# Altium footprint library IoTBox.PcbLib: 13 footprints
Each footprint in its own frame and in the unit in brackets; x right, y up, seen from the top. Pads: shape width x height; smd on the part's side, far side on the other; paste and mask are expansions set on the pad; w line width, h text height; cw(c..) or ccw(c..) is an arc to the next point about the centre after c.
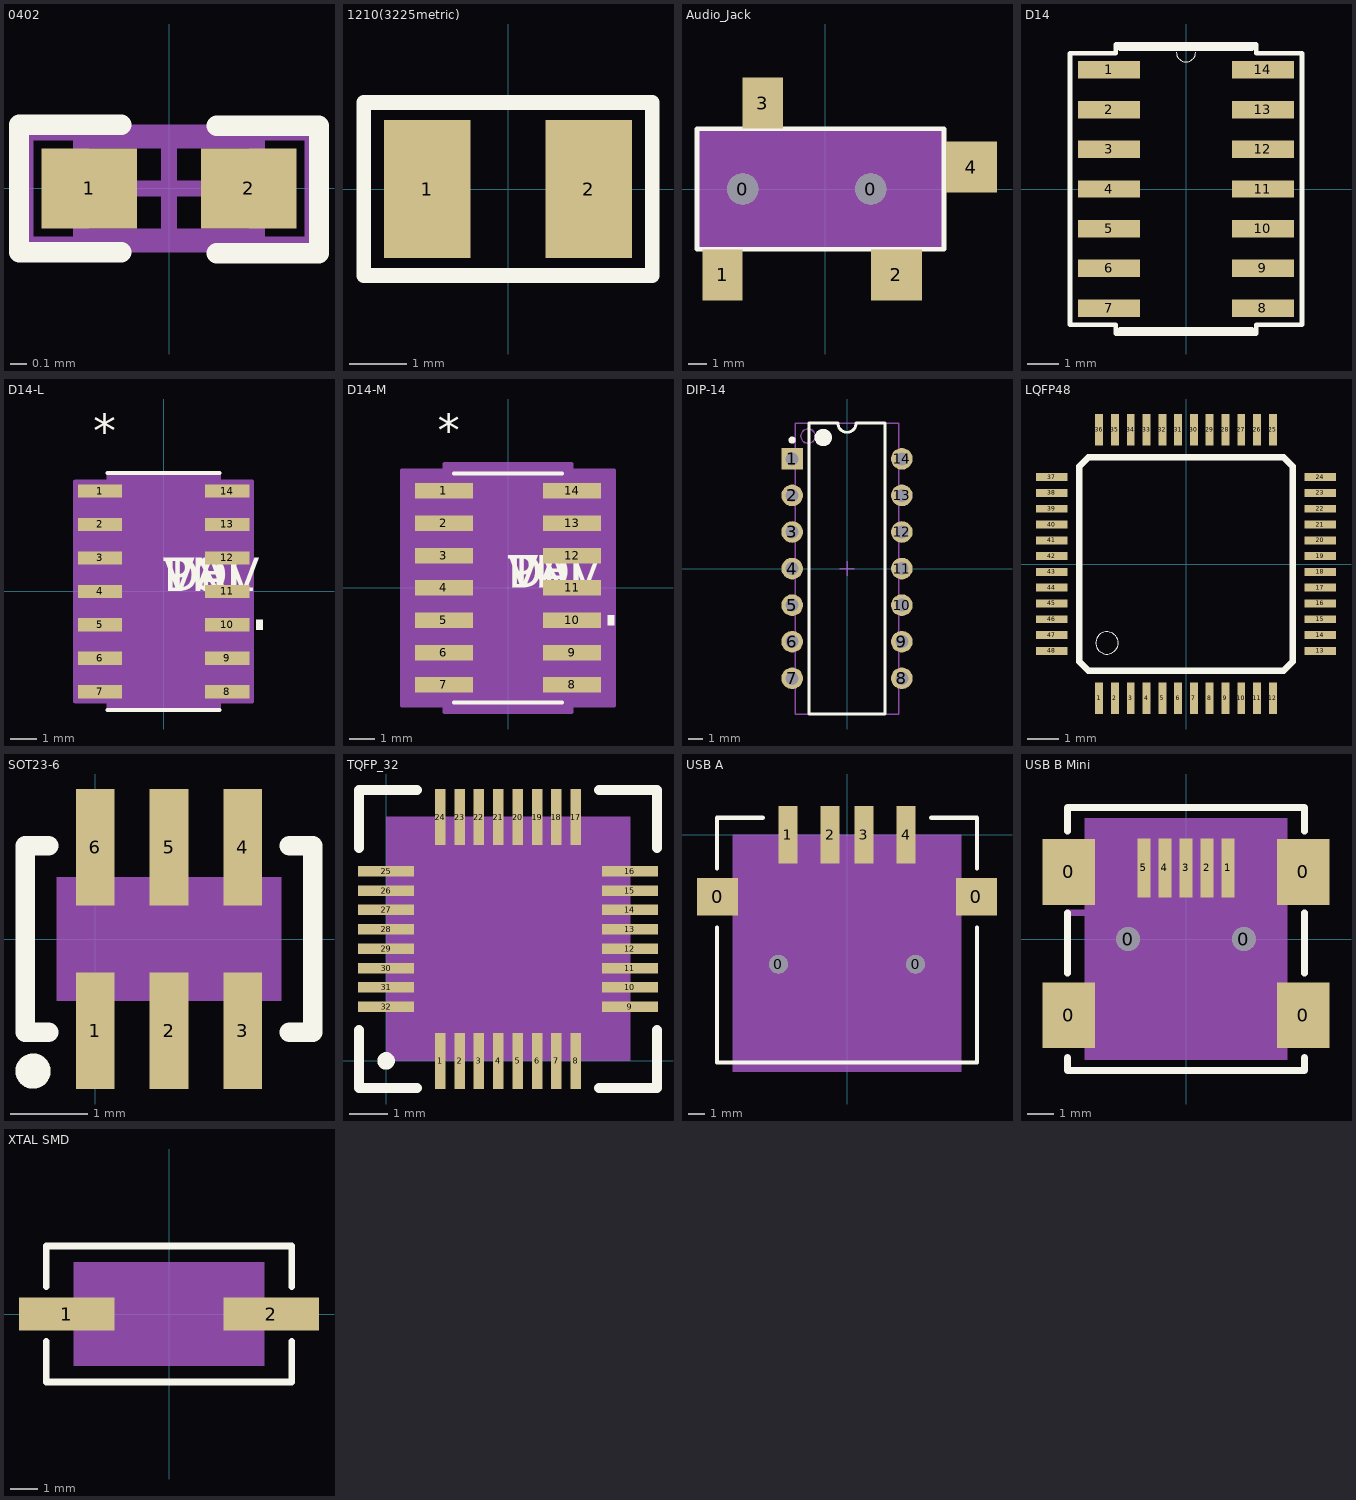
[diagram p0: the footprints below, top view; thin cyan lines are the x and y axes]

## 0402 [mm] "Chip Capacitor, Body 1.0x0.5mm, IPC High Density"
height 1.3
pads (2):
  rect 0.6x0.5 smd: 1(-0.5,0) 2(0.5,0)
Top Overlay:
  lines w0.127: -0.3,-0.4 -0.94,-0.4 -0.94,0.4 -0.3,0.4 ; 0.3,-0.406 0.94,-0.406 0.94,0.394 0.3,0.394
Mechanical 13:
  lines w0.1: -0.55,-0.3 0.55,-0.3 0.55,0.3 -0.55,0.3 -0.55,-0.3
Mechanical 15:
  lines w0.1: -0.3,0 0.3,0 ; 0,-0.3 0,0.3 ; -0.9,-0.35 0.9,-0.35 0.9,0.35 -0.9,0.35 -0.9,-0.35
3D body: height 1.3, standoff 0, extent -0.55,-0.3 0.55,0.3

## 1210(3225metric) [mm]
pads (2):
  rect 1.5x2.4 smd: 1(-1.4,0) 2(1.4,0)
Top Overlay:
  lines w0.254: -2.5,-1.5 2.5,-1.5 2.5,1.5 -2.5,1.5 -2.5,-1.5

## Audio_Jack [mm]
pads (6):
  round 1.7 hole 1.7: 0(-4.5,0) 0(2.5,0)
  rect 2.2x2.8 smd: 1(-5.6,-4.7) 3(-3.4,4.7)
  rect 2.8x2.8 smd: 2(3.9,-4.7) 4(8,1.2)
Top Overlay:
  lines w0.254: -7,-3.3 -7,3.3 6.5,3.3 6.5,-3.3 -7,-3.3
Mechanical 1:
  rectangle: -7,-3.3 6.6,3.3
3D body: height 1.27, standoff 0, extent -7,-3.3 6.6,3.3

## D14 [mil]
pads (14):
  rect 78x22 smd: 1(-97,150) 2(-97,100) 3(-97,50) 4(-97,0) 5(-97,-50) 6(-97,-100) 7(-97,-150) 8(97,-150) 9(97,-100) 10(97,-50) 11(97,0) 12(97,50) 13(97,100) 14(97,150)
Top Overlay:
  lines w0: -12,172 ccw(c0,172) 12,172
  lines w6: -83.5,-177 83.5,-177 ; -83.5,177 83.5,177 ; -146,-171 -146,171 -88.5,171 -88.5,182 88.5,182 88.5,171 146,171 146,-171 88.5,-171 88.5,-182 -88.5,-182 -88.5,-171 -146,-171

## D14-L [mil]
pads (14):
  rect 66x20 smd: 1(-95,150) 2(-95,100) 3(-95,50) 4(-95,0) 5(-95,-50) 6(-95,-100) 7(-95,-150) 8(95,-150) 9(95,-100) 10(95,-50) 11(95,0) 12(95,50) 13(95,100) 14(95,150)
Top Overlay:
  region: 138,-42.5 148,-42.5 148,-57.5 138,-57.5
  lines w6: -83.5,-177 83.5,-177 ; -83.5,177 83.5,177
  text "*" at -105,215 h50
  text "PN" at 0,0 h50
  text "DEV" at 0,0 h50
  text "VAL" at 0,0 h50
  text "TOL" at 0,0 h50
Mechanical 13:
  lines w0: -12,172 ccw(c0,172) 12,172
  text "*" at -63.5,169 h50
  text "RefDes2" at 0,0 h50
Mechanical 15:
  region: -82.5,-164 -132,-164 -132,164 -82.5,164 -82.5,176 82.5,176 82.5,164 132,164 132,-164 82.5,-164 82.5,-176 -82.5,-176
  lines w6: -132,-164 -132,164 -82.5,164 -82.5,176 82.5,176 82.5,164 132,164 132,-164 82.5,-164 82.5,-176 -82.5,-176 -82.5,-164 -132,-164
3D body: height 10, standoff 0, extent 0,0 10,10

## D14-M [mil]
pads (14):
  rect 90x24 smd: 1(-99,150) 2(-99,100) 3(-99,50) 4(-99,0) 5(-99,-50) 6(-99,-100) 7(-99,-150) 8(99,-150) 9(99,-100) 10(99,-50) 11(99,0) 12(99,50) 13(99,100) 14(99,150)
Top Overlay:
  region: 154,-42.5 164,-42.5 164,-57.5 154,-57.5
  lines w6: -83.5,-177 83.5,-177 ; -83.5,177 83.5,177
  text "TOL" at 0,0 h50
  text "VAL" at 0,0 h50
  text "DEV" at 0,0 h50
  text "PN" at 0,0 h50
  text "*" at -109,219 h50
Mechanical 13:
  lines w0: -12,172 ccw(c0,172) 12,172
  text "RefDes2" at 0,0 h50
  text "*" at -63.5,169 h50
Mechanical 15:
  region: -98.5,-182 -164,-182 -164,182 -98.5,182 -98.5,192 98.5,192 98.5,182 164,182 164,-182 98.5,-182 98.5,-192 -98.5,-192
  lines w6: -164,-182 -98.5,-182 -98.5,-192 98.5,-192 98.5,-182 164,-182 164,182 98.5,182 98.5,192 -98.5,192 -98.5,182 -164,182 -164,-182
3D body: height 10, standoff 0, extent 0,0 10,10

## DIP-14 [mm] "DIP; 14 Leads; Row Spacing 7.62 mm; Pitch 2.54 mm"
height 5.08
pads (14):
  rect 1.5x1.5 hole 0.9: 1(-3.81,7.62)
  round 1.5 hole 0.9: 2(-3.81,5.08) 3(-3.81,2.54) 4(-3.81,0) 5(-3.81,-2.54) 6(-3.81,-5.08) 7(-3.81,-7.62) 8(3.81,-7.62) 9(3.81,-5.08) 10(3.81,-2.54) 11(3.81,0) 12(3.81,2.54) 13(3.81,5.08) 14(3.81,7.62)
Top Overlay:
  circle w0.6: c-1.65,9.1 r0.3
  circle w0.25: c-3.81,8.92 r0.125
  lines w0.2: -2.65,-10.1 2.65,-10.1 2.65,10.1 0.635,10.1 cw(c0,10.1) -0.635,10.1 -2.65,10.1 -2.65,-10.1
Mechanical 13:
  circle w0.1: c-2.7,9.2 r0.5
  lines w0.1: -3.6,-10.1 3.6,-10.1 3.6,10.1 -3.6,10.1 -3.6,-10.1
Mechanical 15:
  lines w0.1: -0.5,0 0.5,0 ; 0,-0.5 0,0.5
3D body: height 5.08, standoff 0, extent -3.6,-10.1 3.6,10.1

## LQFP48 [mm]
pads (48):
  rect 0.25x1 smd paste-25.4 mask-25.4: 1(-2.75,-4.25) 2(-2.25,-4.25) 3(-1.75,-4.25) 4(-1.25,-4.25) 5(-0.75,-4.25) 6(-0.25,-4.25) 7(0.25,-4.25) 8(0.75,-4.25) 9(1.25,-4.25) 10(1.75,-4.25) 11(2.25,-4.25) 12(2.75,-4.25) 25(2.75,4.25) 26(2.25,4.25) 27(1.75,4.25) 28(1.25,4.25) 29(0.75,4.25) 30(0.25,4.25) 31(-0.25,4.25) 32(-0.75,4.25) 33(-1.25,4.25) 34(-1.75,4.25) 35(-2.25,4.25) 36(-2.75,4.25)
  rect 1x0.25 smd paste-25.4 mask-25.4: 13(4.25,-2.75) 14(4.25,-2.25) 15(4.25,-1.75) 16(4.25,-1.25) 17(4.25,-0.75) 18(4.25,-0.25) 19(4.25,0.25) 20(4.25,0.75) 21(4.25,1.25) 22(4.25,1.75) 23(4.25,2.25) 24(4.25,2.75) 37(-4.25,2.75) 38(-4.25,2.25) 39(-4.25,1.75) 40(-4.25,1.25) 41(-4.25,0.75) 42(-4.25,0.25) 43(-4.25,-0.25) 44(-4.25,-0.75) 45(-4.25,-1.25) 46(-4.25,-1.75) 47(-4.25,-2.25) 48(-4.25,-2.75)
Top Overlay:
  circle w0: c-2.5,-2.5 r0.353
  lines w0.203: -3.375,-3.1 -3.1,-3.375 3.1,-3.375 3.375,-3.1 3.375,3.1 3.1,3.375 -3.1,3.375 -3.375,3.1 -3.375,-3.1
Top Paste:
  drawing of 48 lines, arcs and shapes, not listed
Top Solder:
  drawing of 48 lines, arcs and shapes, not listed
3D body: height 0, standoff 0, extent -3.477,-3.477 3.477,3.477

## SOT23-6 [mm]
pads (6):
  rect 0.5x1.5 smd: 1(0,-1.181) 2(0.95,-1.181) 3(1.9,-1.181) 4(1.9,1.181) 5(0.95,1.181) 6(0,1.181)
Top Overlay:
  circle w0.254: c-0.8,-1.7 r0.1
  lines w0.254: -0.6,-1.2 -0.9,-1.2 -0.9,1.2 -0.6,1.2 ; 2.5,-1.2 2.8,-1.2 2.8,1.2 2.5,1.2
Mechanical 1:
  rectangle: -0.5,-0.8 2.4,0.8

## TQFP_32 [mm] "thin quad flat pack 32 pin 0.5mm pitch"
pads (32):
  rect 0.27x1.45 smd: 1(1.4,0) 2(1.9,0) 3(2.4,0) 4(2.9,0) 5(3.4,0) 6(3.9,0) 7(4.4,0) 8(4.9,0) 17(4.9,6.3) 18(4.4,6.3) 19(3.9,6.3) 20(3.4,6.3) 21(2.9,6.3) 22(2.4,6.3) 23(1.9,6.3) 24(1.4,6.3)
  rect 1.45x0.27 smd: 9(6.3,1.4) 10(6.3,1.9) 11(6.3,2.4) 12(6.3,2.9) 13(6.3,3.4) 14(6.3,3.9) 15(6.3,4.4) 16(6.3,4.9) 25(0,4.9) 26(0,4.4) 27(0,3.9) 28(0,3.4) 29(0,2.9) 30(0,2.4) 31(0,1.9) 32(0,1.4)
Top Overlay:
  circle w0.254: c0,0 r0.1
  lines w0.254: -0.7,0.8 -0.7,-0.7 0.8,-0.7 ; -0.7,5.5 -0.7,7 0.8,7 ; 5.5,-0.7 7,-0.7 7,0.8 ; 5.5,7 7,7 7,5.5
Mechanical 1:
  rectangle: 0,0 6.32,6.32

## USB A [mm]
pads (8):
  rect 2.44x2.22 smd: 0(-7.67,-3.68) 0(7.67,-3.68)
  round 1.1 hole 1.1: 0(-4.06,-7.68) 0(4.06,-7.68)
  rect 1.12x3.39 smd: 1(-3.5,0) 2(-1,0) 3(1,0) 4(3.5,0)
Top Overlay:
  lines w0.254: -7.7,-5.5 -7.7,-13.5 7.7,-13.5 7.7,-5.5 ; -7.7,-2 -7.7,1 -5,1 ; 5,1 7.7,1 7.7,-2
Mechanical 1:
  rectangle: -6.775,-14.06 6.775,0

## USB B Mini [mm]
pads (11):
  rect 2x2.5 smd: 0(-4.45,-2.9) 0(-4.45,2.55) 0(4.45,-2.9) 0(4.45,2.55)
  round 0.9 hole 0.9: 0(-2.2,0) 0(2.2,0)
  rect 0.5x2.25 smd: 1(1.6,2.7) 2(0.8,2.7) 3(0,2.7) 4(-0.8,2.7) 5(-1.6,2.7)
Top Overlay:
  lines w0.254: -4.5,-4.5 -4.5,-5 4.5,-5 4.5,-4.5 ; -4.5,-1.3 -4.5,1 ; -4.5,4.1 -4.5,5 4.5,5 4.5,4.1 ; 4.5,-1.3 4.5,1
Mechanical 1:
  rectangle: -3.85,-4.6 3.85,4.6
Mechanical 15:
  lines w0.254: -4.4,1 0,1 ; -3,-2.8 -3,0 ; -2.2,-1 0,-1 ; -1.6,4.3 1.6,4.3 ; 0.8,0.8 1.6,0.8 ; 3,0 3,2.5
  text "3.2mm" at -0.7,4.5 h0.51
  text "2.2mm" at -1.6,-0.8 h0.51
  text "4.45mm" at -2.8,1.2 h0.51
  text "2.55mm" at 2.8,0.5 h0.51
  text "2.9mm" at -2.5,-2.9 h0.51
  text "0.5mm" at 0.6,1 h0.51

## XTAL SMD [mm]
pads (2):
  rect 3.5x1.2 smd: 1(-3.75,0) 2(3.75,0)
Top Overlay:
  lines w0.254: -4.5,-1 -4.5,-2.5 4.5,-2.5 4.5,-1 ; -4.5,1 -4.5,2.5 4.5,2.5 4.5,1
Mechanical 1:
  rectangle: -3.5,-1.9 3.5,1.9